# EAGLE library part 74LVC125A (library nxp_60_1_1)
Quad buffer/line driver with 5 V tolerant input/outputs; 3-state The 74LVC125A consists of four non-inverting buffers/line drivers with 3-state outputs (nY) that are controlled by the output enable input (nOE). A HIGH at nOE causes the outputs to assume a high-impedance OFF-state. Inputs can be driven from either 3.3 V or 5 V devices. When disabled, up to 5.5 V can be applied to the outputs. AAL Eindhoven MK
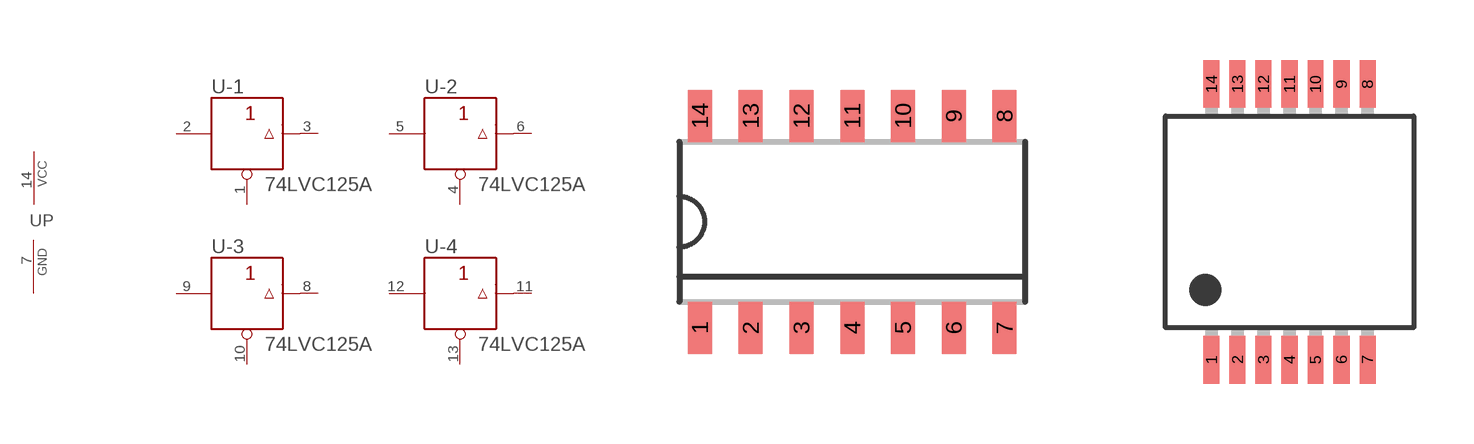
[diagram p92: symbol with the pads of SOT108-1; footprints SOT108-1, SOT337]

Designator prefix U; gates P=PWRN-1 -1=BUFFER_OE -2=BUFFER_OE -3=BUFFER_OE -4=BUFFER_OE

## 74LVC125AD (12NC: 9352 317 00118)  [SOT108-1]
1  -1:OEN  in
2  -1:A  in
3  -1:Y  out
4  -2:OEN  in
5  -2:A  in
6  -2:Y  out
7  P:GND  pwr
8  -3:Y  out
9  -3:A  in
10  -3:OEN  in
11  -4:Y  out
12  -4:A  in
13  -4:OEN  in
14  P:VCC  pwr

## 74LVC125ADB  [SOT337]
Pads as for SOT108-1

## 74LVC125APW  [SOT402-1]
Pads as for SOT108-1

## 74LVC125ABQ  [SOT762]
1  -1:OEN  in
2  -1:A  in
3  -1:Y  out
4  -2:OEN  in
5  -2:A  in
6  -2:Y  out
7  P:GND  pwr
8  -3:Y  out
9  -3:A  in
10  -3:OEN  in
11  -4:Y  out
12  -4:A  in
13  -4:OEN  in
14  P:VCC  pwr
CP  P:GND  pwr

## Footprint SOT108-1 (pad centres in mm)
SOT108-1 SO14: plastic small outline package; 14 leads; body width 3.9 mm; body thickness 1.47 mm JEDEC: MS-012 IEC: --
smd 0.6 x 1.3: 1 -3.81,-2.65; 2 -2.54,-2.65; 3 -1.27,-2.65; 4 0,-2.65; 5 1.27,-2.65; 6 2.54,-2.65; 7 3.81,-2.65; 8 3.81,2.65; 9 2.54,2.65; 10 1.27,2.65; 11 0,2.65; 12 -1.27,2.65; 13 -2.54,2.65; 14 -3.81,2.65

## Footprint SOT337 (pad centres in mm)
SOT337 SSOP14: plastic shrink small outline package; 14 leads; body width 5.3 mm JEDEC: MO-150 IEC: --
smd 0.4 x 1.2: 1 -1.95,-3.45; 2 -1.3,-3.45; 3 -0.65,-3.45; 4 0,-3.45; 5 0.65,-3.45; 6 1.3,-3.45; 7 1.95,-3.45; 8 1.95,3.45; 9 1.3,3.45; 10 0.65,3.45; 11 0,3.45; 12 -0.65,3.45; 13 -1.3,3.45; 14 -1.95,3.45

## Footprint SOT402-1 (pad centres in mm)
SOT402-1 TSSOP14: plastic thin shrink small outline package; 14 leads; body width 4.4 mm JEDEC: MO-153 IEC: ---
smd 0.6 x 1.35: 1 -2.05,-2.925; 7 2.05,-2.925; 8 2.05,2.925; 14 -2.05,2.925
smd 0.4 x 1.35: 2 -1.3,-2.925; 3 -0.65,-2.925; 4 0,-2.925; 5 0.65,-2.925; 6 1.3,-2.925; 9 1.3,2.925; 10 0.65,2.925; 11 0,2.925; 12 -0.65,2.925; 13 -1.3,2.925

## Footprint SOT762 (pad centres in mm)
SOT762 DHVQFN14: plastic dual in-line compatible thermal enhanced very thin quad flat package; no leads; 14 terminals; body 2.5 x 3 x 0.85 mm JEDEC: MO-241 IEC: -- JEITA: --
smd 1 x 0.29: 1 -1.5,-0.25; 7 1.5,-0.25; 8 1.5,0.25; 14 -1.5,0.25
smd 0.29 x 1: 2 -1,-1.35; 3 -0.5,-1.35; 4 0,-1.35; 5 0.5,-1.35; 6 1,-1.35; 9 1,1.35; 10 0.5,1.35; 11 0,1.35; 12 -0.5,1.35; 13 -1,1.35
smd 1.4 x 0.9: CP 0,0